# Altium footprint library CAMERON.PcbLib: 58 footprints (part 3 of 4)
Each footprint in its own frame and in the unit in brackets; x right, y up, seen from the top. Pads: shape width x height; smd on the part's side, far side on the other; paste and mask are expansions set on the pad; w line width, h text height; cw(c..) or ccw(c..) is an arc to the next point about the centre after c.
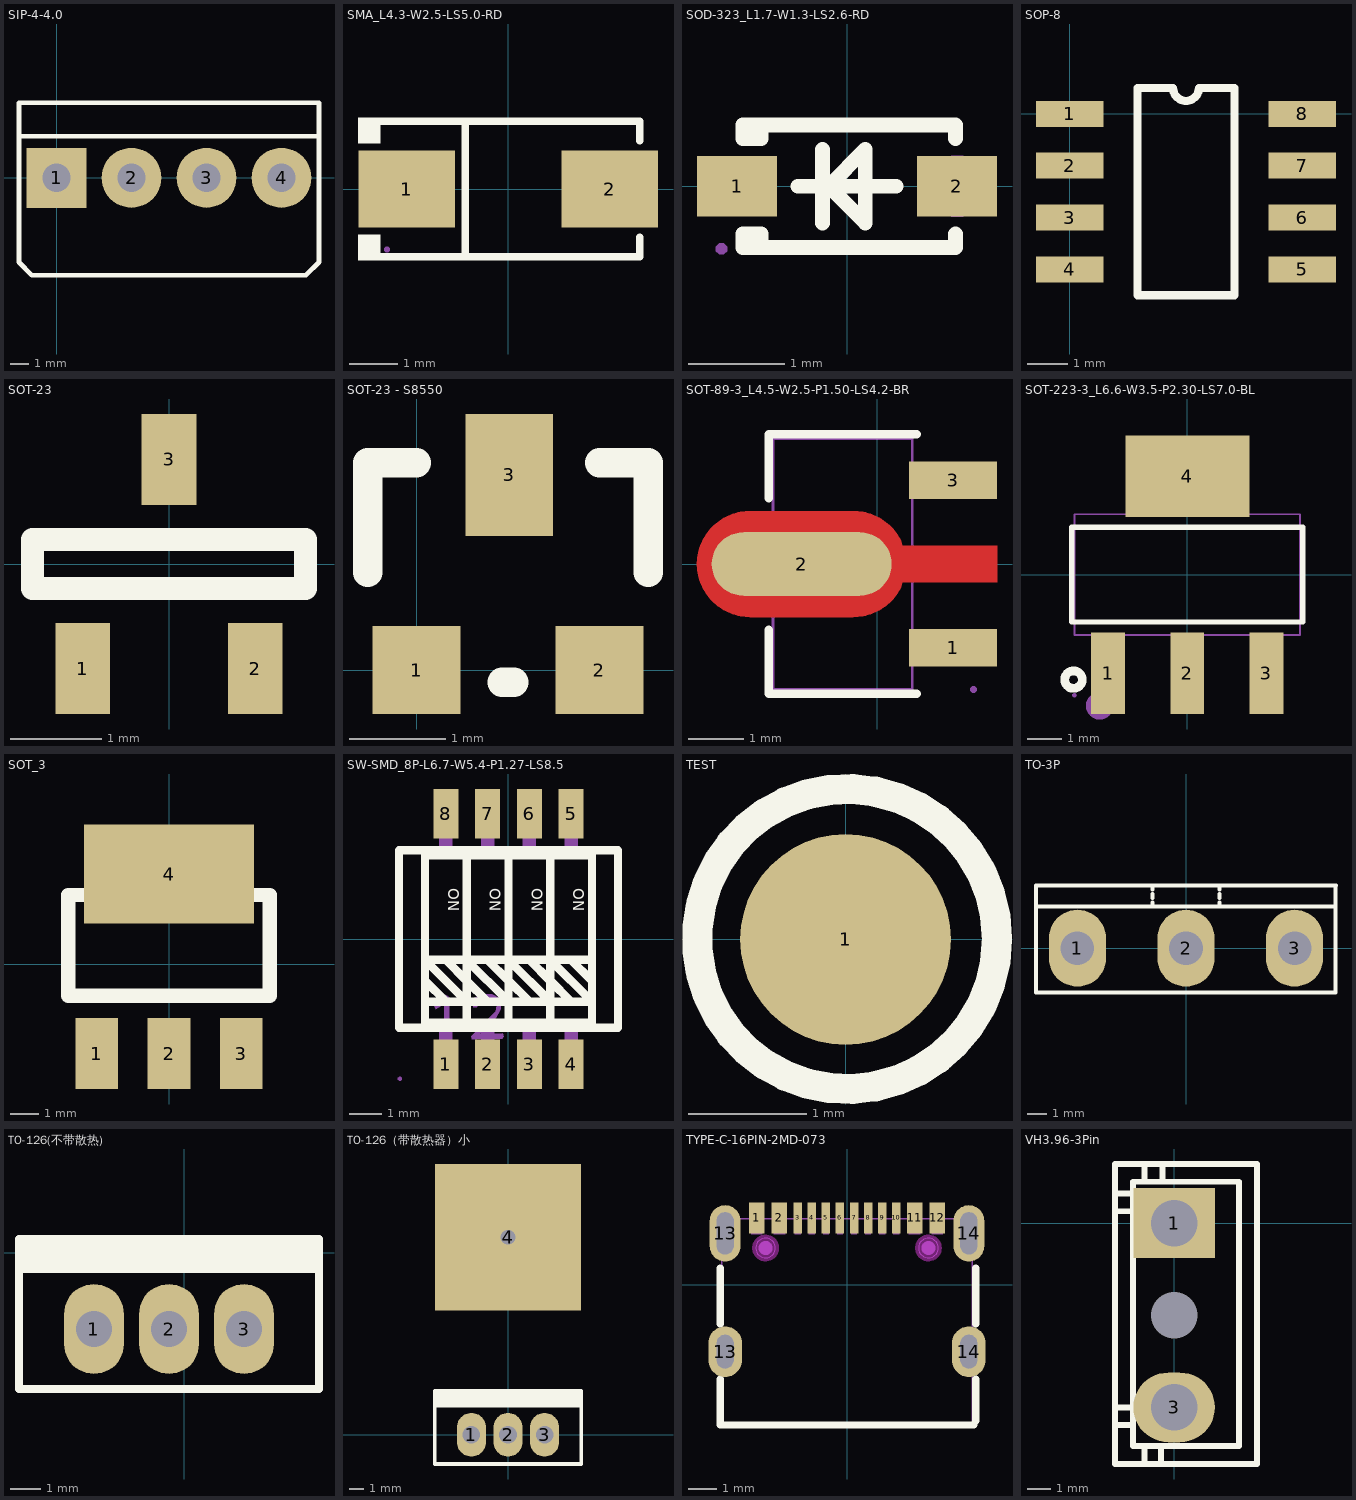
[diagram p2: the footprints below, top view; thin cyan lines are the x and y axes]

## SIP-4-4.0 [mm]
pads (4):
  rect 3.2x3.2 hole 1.5: 1(0,0)
  round 3.2 hole 1.5: 2(4,0) 3(8,0) 4(12,0)
Top Overlay:
  lines w0.254: -2,2.21 14,2.21 ; -1.31,-5.2 13.3,-5.2 14,-4.5 14,4 -2,4 -2,-4.51 -1.31,-5.2 ; -1.31,-5.2 -1.31,-5.2 ; -2,2.2 -2,2.2

## SMA_L4.3-W2.5-LS5.0-RD [mm]
pads (2):
  rect 2x1.593 smd: 1(-2.1,0) 2(2.1,0)
Top Overlay:
  region: -2.65,-1.477 -2.65,-0.949 -3.107,-0.949 -3.107,-1.477
  region: -2.65,1.477 -2.65,0.949 -3.107,0.949 -3.107,1.477
  lines w0.152: -2.726,-1.401 2.726,-1.401 2.726,-1 ; -2.726,1.401 2.726,1.401 2.726,1 ; -0.886,-1.401 -0.886,1.401
Mechanical 6:
  region: 2.153,-0.663 2.153,0.663 1.954,0.663 1.954,-0.663
  region: 2.451,-0.099 2.451,0.099 1.656,0.099 1.656,-0.099
  region: -2.451,-0.099 -2.451,0.099 -1.656,0.099 -1.656,-0.099
Mechanical 15:
  region: 1.307,-0.725 1.307,0.725 2.507,0.725 2.507,-0.725
  region: -1.307,0.725 -1.307,-0.725 -2.507,-0.725 -2.507,0.725
  region: -2.447,-1.25 -2.447,-1.225 -2.482,-1.19 -2.532,-1.19 -2.567,-1.225 -2.567,-1.25 -2.567,-1.275 -2.532,-1.31 -2.482,-1.31 -2.447,-1.275 -2.447,-1.25

## SOD-323_L1.7-W1.3-LS2.6-RD [mm]
pads (2):
  rect 0.83x0.63 smd paste+0 mask+0.05: 1(-1.14,0) 2(1.14,0)
Top Overlay:
  lines w0.152: -1.003,-0.635 -0.986,-0.635 -0.986,-0.495 ; -0.986,0.495 -0.986,0.635 ; -0.508,0 0.508,0 ; -0.254,-0.381 -0.254,0.381 ; 1.125,-0.495 1.125,-0.635 0.889,-0.635 -0.889,-0.635 ; 1.125,0.495 1.125,0.635 0.889,0.635 -0.889,0.635 ; -0.889,-0.635 -1.079,-0.635 -1.079,-0.495 -0.889,-0.495 ; -0.889,-0.635 -0.889,-0.595 -0.889,-0.495 ; -0.889,-0.495 -0.889,-0.495 ; -0.889,0.635 -1.08,0.635 -1.08,0.495 -0.889,0.495 -0.889,0.595 -0.889,0.635 ; -0.191,0 0.191,-0.381 0.191,0.381 -0.191,0
Mechanical 6:
  region: 0.826,0.064 0.826,-0.064 1.079,-0.064 1.079,-0.318 1.206,-0.318 1.206,-0.064 1.46,-0.064 1.46,0.064 1.206,0.064 1.206,0.318 1.079,0.318 1.079,0.064
  region: -1.46,0.064 -1.46,-0.064 -0.826,-0.064 -0.826,0.064
Mechanical 15:
  region: -1.24,-0.65 -1.241,-0.626 -1.276,-0.592 -1.324,-0.592 -1.359,-0.626 -1.36,-0.65 -1.359,-0.674 -1.324,-0.708 -1.276,-0.708 -1.241,-0.674
  region: -1.3,-0.175 -1.3,0.175 -0.8,0.175 -0.8,-0.175
  region: 0.8,-0.175 0.8,0.175 1.3,0.175 1.3,-0.175
  lines w0.051: -0.85,-0.65 0.85,-0.65 ; -0.85,0.65 0.85,0.65

## SOP-8 [mil]
pads (8):
  rect 65x25 smd: 1(0,0) 2(0,-50) 3(0,-100) 4(0,-150) 5(224.41,-150) 6(224.41,-100) 7(224.41,-50) 8(224.41,0)
Top Overlay:
  lines w7.87: 65.37,-175 65.37,25 99.7,25 ccw(c112.2,25) 124.7,25 159.04,25 159.04,-175 65.37,-175

## SOT-23 [mm]
height 1.1
pads (3):
  rect 0.6x1 smd: 1(-0.95,-1.15) 2(0.95,-1.15) 3(0,1.15)
Top Overlay:
  lines w0.254: -1.5,-0.27 1.5,-0.27 1.5,0.27 -1.5,0.27 -1.5,-0.27

## SOT-23 - S8550 [mil]
pads (3):
  rect 36x36 smd: 1(0,0) 2(75,0)
  rect 36x50 smd: 3(38,80)
Top Overlay:
  lines w12: -20,40 -20,85 0,85 ; 35,-5 40,-5 ; 75,85 95,85 95,40

## SOT-89-3_L4.5-W2.5-P1.50-LS4.2-BR [mm]
pads (3):
  rect 1.575x0.672 smd: 1(1.356,-1.5) 3(1.356,1.5)
  oval 3.226x1.14 smd: 2(-1.356,0)
Top Layer:
  region: -2.283,0.95 -0.429,0.95 -0.384,0.949 -0.34,0.946 -0.296,0.94 -0.252,0.933 -0.208,0.924 -0.165,0.912 -0.123,0.899 -0.081,0.884 -0.04,0.866 0,0.847 0.04,0.826 0.078,0.803 0.115,0.779 0.151,0.752 0.185,0.724 0.219,0.695 0.251,0.664 0.281,0.631 0.31,0.597 0.337,0.562 0.362,0.525 0.386,0.488 0.408,0.449 0.428,0.409 0.447,0.33 2.144,0.33 2.144,-0.33 0.447,-0.33 0.428,-0.409 0.408,-0.449 0.386,-0.488 0.362,-0.526 0.337,-0.562 0.31,-0.597 0.281,-0.631 0.251,-0.664 0.219,-0.695 0.185,-0.725 0.151,-0.753 0.115,-0.779 0.078,-0.804 0.04,-0.827 0,-0.848 -0.04,-0.867 -0.081,-0.884 -0.123,-0.899 -0.165,-0.913 -0.208,-0.924 -0.252,-0.934 -0.296,-0.941 -0.34,-0.946 -0.384,-0.949 -0.429,-0.95 -2.283,-0.95 -2.328,-0.949 -2.372,-0.946 -2.416,-0.941 -2.46,-0.934 -2.504,-0.924 -2.547,-0.913 -2.589,-0.899 -2.631,-0.884 -2.672,-0.867 -2.713,-0.848 -2.752,-0.827 -2.79,-0.804 -2.827,-0.779 -2.863,-0.753 -2.898,-0.725 -2.931,-0.695 -2.963,-0.664 -2.993,-0.631 -3.022,-0.597 -3.049,-0.562 -3.075,-0.526 -3.098,-0.488 -3.12,-0.449 -3.141,-0.409 -3.159,-0.369 -3.175,-0.327 -3.189,-0.285 -3.202,-0.242 -3.212,-0.199 -3.22,-0.155 -3.227,-0.111 -3.231,-0.067 -3.233,-0.022 -3.233,0.022 -3.231,0.067 -3.227,0.111 -3.22,0.155 -3.212,0.199 -3.202,0.242 -3.189,0.285 -3.175,0.327 -3.159,0.369 -3.141,0.409 -3.12,0.449 -3.098,0.488 -3.075,0.525 -3.049,0.562 -3.022,0.597 -2.993,0.631 -2.963,0.664 -2.931,0.695 -2.898,0.724 -2.863,0.752 -2.827,0.779 -2.79,0.803 -2.752,0.826 -2.713,0.847 -2.672,0.866 -2.631,0.884 -2.589,0.899 -2.547,0.912 -2.504,0.924 -2.46,0.933 -2.416,0.94 -2.372,0.946 -2.328,0.949
Top Overlay:
  lines w0.152: -1.95,-1.177 -1.95,-2.326 0.702,-2.326 ; -1.95,1.177 -1.95,2.326 0.702,2.326
Mechanical 6:
  circle w0.3: c1.715,-1.5 r0.15
Mechanical 15:
  region: 0.624,1.75 1.724,1.75 1.724,1.25 0.624,1.25
  region: 0.624,-1.25 1.724,-1.25 1.724,-1.75 0.624,-1.75
  region: 0.439,-0.26 1.724,-0.26 1.724,0.26 0.439,0.26 -0.136,0.863 -2,0.863 -2.471,0.288 -2.471,-0.287 -2,-0.862 -0.136,-0.862
  region: 1.784,-2.25 1.784,-2.225 1.749,-2.19 1.699,-2.19 1.664,-2.225 1.664,-2.25 1.664,-2.275 1.699,-2.31 1.749,-2.31 1.784,-2.275
  lines w0.051: -1.874,-2.25 0.626,-2.25 0.626,2.25 -1.874,2.25 -1.874,-2.25

## SOT-223-3_L6.6-W3.5-P2.30-LS7.0-BL [mm]
pads (4):
  rect 0.98x2.366 smd: 1(-2.3,-2.863) 2(0,-2.863) 3(2.3,-2.863)
  rect 3.6x2.366 smd: 4(0,2.863)
Top Overlay:
  circle w0.254: c-3.302,-3.048 r0.254
  lines w0.152: -3.351,-1.375 3.351,-1.375 3.351,1.375 -3.351,1.375 -3.351,-1.375
Mechanical 6:
  circle w0.4: c-2.54,-3.81 r0.2
Mechanical 15:
  region: 1.5,2.6 1.5,1.74 -1.5,1.74 -1.5,2.6
  region: 1.5,3.5 1.5,2.59 -1.5,2.59 -1.5,3.5
  region: 2.65,-2.6 2.65,-1.74 1.95,-1.74 1.95,-2.6
  region: 2.65,-3.5 2.65,-2.59 1.95,-2.59 1.95,-3.5
  region: 0.35,-2.6 0.35,-1.74 -0.35,-1.74 -0.35,-2.6
  region: 0.35,-3.5 0.35,-2.59 -0.35,-2.59 -0.35,-3.5
  region: -1.95,-2.6 -1.95,-1.74 -2.65,-1.74 -2.65,-2.6
  region: -1.95,-3.5 -1.95,-2.59 -2.65,-2.59 -2.65,-3.5
  region: -3.215,-3.5 -3.216,-3.476 -3.251,-3.441 -3.3,-3.441 -3.335,-3.476 -3.335,-3.5 -3.334,-3.525 -3.299,-3.559 -3.251,-3.559 -3.216,-3.525
  lines w0.051: -3.275,-1.75 3.275,-1.75 3.275,1.75 -3.275,1.75 -3.275,-1.75

## SOT_3 [mm]
pads (4):
  rect 1.5x2.5 smd: 1(-2.54,-3.151) 2(0,-3.151) 3(2.54,-3.151)
  rect 6x3.5 smd: 4(0,3.175)
Top Overlay:
  lines w0.508: -3.556,-1.119 3.556,-1.119 3.556,2.437 -3.556,2.437 -3.556,-1.119
Top Solder:
  rectangle: -3.048,1.397 3.048,4.989

## SW-SMD_8P-L6.7-W5.4-P1.27-LS8.5 [mm]
pads (8):
  rect 0.762x1.5 smd: 1(-1.905,-3.81) 2(-0.635,-3.81) 3(0.635,-3.81) 4(1.905,-3.81) 5(1.905,3.81) 6(0.635,3.81) 7(-0.635,3.81) 8(-1.905,3.81)
Top Overlay:
  lines w0.254: -2.54,-1.905 -1.27,-1.905 ; -2.54,-1.27 -1.905,-1.905 ; -1.905,-0.635 -1.27,-1.27 -0.635,-1.905 ; -0.635,-0.635 0,-1.27 0.635,-1.905 ; 0.635,-0.635 1.27,-1.27 1.905,-1.905 ; 1.905,-0.635 2.54,-1.27 ; 2.54,-0.635 1.27,-0.635 ; -1.27,-2.54 0,-2.54 ; -1.27,-2.54 -2.54,-2.54 -2.54,2.54 -1.27,2.54 ; -1.27,-2.54 -1.27,2.54 ; -1.27,-2.54 -1.27,2.54 ; -1.27,-2.54 -1.27,2.54 ; -1.27,-2.54 -1.27,2.54 ; -1.27,-1.905 0,-1.905 ; -1.27,-1.905 -2.54,-0.635 -1.27,-0.635 ; -1.27,-0.635 0,-0.635 ; -1.27,-0.635 0,-1.905 ; -1.27,2.54 0,2.54 ; 0,-2.54 0,2.54 ; 0,-2.54 0,2.54 ; 0,-2.54 0,2.54 ; 0,-2.54 1.27,-2.54 ; 0,-1.905 1.27,-1.905 ; 0,-0.635 1.27,-1.905 ; 0,-0.635 1.27,-0.635 ; 0,2.54 1.27,2.54 ; 1.27,-2.54 1.27,2.54 ; 1.27,-2.54 2.54,-2.54 2.54,2.54 1.27,2.54 ; 1.27,-2.54 1.27,2.54 ; 1.27,-1.905 2.54,-1.905 1.27,-0.635 ; -3.33,-2.7 -3.33,2.7 3.33,2.7 3.33,-2.7 -3.33,-2.7
  text "ON" at -0.564,1.538 h0.33
  text "ON" at 0.706,1.538 h0.33
  text "ON" at 1.976,1.538 h0.33
  text "ON" at -1.834,1.538 h0.33
Mechanical 6:
  region: -0.97,-2.08 -0.87,-1.94 -0.75,-1.85 -0.55,-1.84 -0.39,-1.92 -0.36,-2.03 -0.39,-2.19 -1.13,-2.95 -1.11,-3.05 -0.96,-3.05 -0.19,-3.03 -0.14,-2.97 -0.17,-2.87 -0.87,-2.89 -0.39,-2.41 -0.24,-2.14 -0.22,-1.93 -0.3,-1.78 -0.49,-1.68 -0.77,-1.68 -1.01,-1.77 -1.11,-1.96 -1.05,-2.09
  region: -2.25,-2.05 -2.21,-2.13 -1.96,-1.99 -1.97,-3.07 -1.8,-3.08 -1.8,-1.77 -1.91,-1.7 -2.27,-1.98
Mechanical 15:
  region: -2.105,-4.25 -2.105,-3.42 -1.705,-3.42 -1.705,-4.25
  region: -2.105,-3.43 -2.105,-2.69 -1.705,-2.69 -1.705,-3.43
  region: -2.105,3.42 -2.105,4.25 -1.705,4.25 -1.705,3.42
  region: -2.105,2.69 -2.105,3.43 -1.705,3.43 -1.705,2.69
  region: 1.705,3.42 1.705,4.25 2.105,4.25 2.105,3.42
  region: 1.705,2.69 1.705,3.43 2.105,3.43 2.105,2.69
  region: 1.705,-4.25 1.705,-3.42 2.105,-3.42 2.105,-4.25
  region: 1.705,-3.43 1.705,-2.69 2.105,-2.69 2.105,-3.43
  region: 0.435,-4.25 0.435,-3.42 0.835,-3.42 0.835,-4.25
  region: 0.435,-3.43 0.435,-2.69 0.835,-2.69 0.835,-3.43
  region: 0.435,3.42 0.435,4.25 0.835,4.25 0.835,3.42
  region: 0.435,2.69 0.435,3.43 0.835,3.43 0.835,2.69
  region: -0.835,3.42 -0.835,4.25 -0.435,4.25 -0.435,3.42
  region: -0.835,2.69 -0.835,3.43 -0.435,3.43 -0.435,2.69
  region: -0.835,-4.25 -0.835,-3.42 -0.435,-3.42 -0.435,-4.25
  region: -0.835,-3.43 -0.835,-2.69 -0.435,-2.69 -0.435,-3.43
  region: -3.24,-4.25 -3.24,-4.225 -3.275,-4.19 -3.325,-4.19 -3.36,-4.225 -3.36,-4.25 -3.36,-4.275 -3.325,-4.31 -3.275,-4.31 -3.24,-4.275 -3.24,-4.25
  lines w0.051: -3.3,-2.7 3.3,-2.7 3.3,2.7 -3.3,2.7 -3.3,-2.7

## TEST [mil]
pads (1):
  round 70 smd: 1(0,0)
Top Overlay:
  circle w10: c0.46,0.16 r49.82

## TO-3P [mm]
pads (3):
  oval 2.9x3.9 hole 1.7: 1(-5.5,0) 2(0,0) 3(5.5,0)
Top Overlay:
  lines w0.2: -7.602,3.165 -7.602,2.107 -7.602,-2.24 7.582,-2.24 7.582,2.117 7.582,3.175 ; -7.6,3.175 7.6,3.175 ; -7.53,2.117 7.55,2.117 ; -1.693,2.117 -1.693,2.328 ; -1.693,2.54 -1.693,2.752 ; -1.693,2.963 -1.693,3.175 ; 1.693,2.117 1.693,2.328 ; 1.693,2.54 1.693,2.752 ; 1.693,2.963 1.693,3.175

## TO-126(不带散热) [mm]
pads (3):
  oval 2x3 hole 1.2: 1(-3.008,-2.54) 2(-0.508,-2.54) 3(1.992,-2.54)
Top Overlay:
  lines w0.254: -5.508,-0.54 4.492,-0.54 ; -5.508,-0.381 4.492,-0.381 ; -5.508,-0.254 4.492,-0.254 ; -5.508,0.02 4.492,0.02 ; -5.508,0.254 4.492,0.254 ; -5.381,-0.127 4.492,-0.127 ; -5.508,-4.54 -5.508,0.46 4.492,0.46 4.492,-4.54 -5.508,-4.54

## TO-126（带散热器）小 [mm]
pads (4):
  oval 2x3 hole 1.2: 1(-2.5,0) 2(0,0) 3(2.5,0)
  rect 10x10 hole 1: 4(0,13.513)
Top Overlay:
  lines w0.254: -5,2 5,2 ; -5,2.159 5,2.159 ; -5,2.286 5,2.286 ; -5,2.56 5,2.56 ; -5,2.794 5,2.794 ; -4.873,2.413 5,2.413 ; -5,-2 5,-2 5,3 -5,3 -5,-2

## TYPE-C-16PIN-2MD-073 [mm]
pads (16):
  rect 0.55x1.1 smd paste-100 mask+0.05: 1(-3.2,2.375) 2(-2.4,2.375) 11(2.4,2.375) 12(3.2,2.375)
  rect 0.3x1.1 smd paste-100 mask+0.05: 3(-1.75,2.375) 4(-1.25,2.375) 5(-0.75,2.375) 6(-0.25,2.375) 7(0.25,2.375) 8(0.75,2.375) 9(1.25,2.375) 10(1.75,2.375)
  oval 1.1x2 hole 0.6 slot 1.5 at 90 deg paste+0 mask+0.05: 13(-4.325,1.825) 14(4.325,1.825)
  oval 1.2x1.8 hole 0.6 slot 1.2 at 90 deg paste+0 mask+0.05: 13(-4.325,-2.375) 14(4.325,-2.375)
Top Overlay:
  lines w0.254: -4.5,-3.356 -4.5,-4.975 4.5,-4.975 ; -4.5,-1.394 -4.5,0.594 ; 4.572,-4.826 4.572,-3.353 ; 4.572,-1.397 4.572,0.597
Top Paste:
  drawing of 16 lines, arcs and shapes, not listed
Keep-Out Layer:
  board cut-out: -2.54,1.305 -2.541,1.374 -2.595,1.5 -2.694,1.597 -2.821,1.649 -2.959,1.649 -3.086,1.597 -3.184,1.5 -3.239,1.374 -3.24,1.305 -3.239,1.236 -3.184,1.11 -3.086,1.013 -2.959,0.961 -2.821,0.961 -2.694,1.013 -2.595,1.11 -2.541,1.236
  board cut-out: 3.24,1.305 3.239,1.374 3.185,1.5 3.086,1.597 2.959,1.649 2.821,1.649 2.694,1.597 2.596,1.5 2.541,1.374 2.54,1.305 2.541,1.236 2.596,1.11 2.694,1.013 2.821,0.961 2.959,0.961 3.086,1.013 3.185,1.11 3.239,1.236
Mechanical 1:
  circle w0.025: c-2.89,1.305 r0.35
  circle w0.025: c2.89,1.305 r0.35
Mechanical 6:
  circle w0.25: c-2.89,1.305 r0.125
  circle w0.25: c2.89,1.305 r0.125
Mechanical 15:
  region: -4.39,2.649 -4.39,2.674 -4.425,2.709 -4.475,2.709 -4.51,2.674 -4.51,2.649 -4.51,2.624 -4.475,2.589 -4.425,2.589 -4.39,2.624
  region: -1.85,2.649 -1.65,2.649 -1.65,1.799 -1.85,1.799
  region: -0.85,2.649 -0.65,2.649 -0.65,1.799 -0.85,1.799
  region: -1.35,2.649 -1.15,2.649 -1.15,1.799 -1.35,1.799
  region: -0.35,2.649 -0.15,2.649 -0.15,1.799 -0.35,1.799
  region: 0.15,2.649 0.35,2.649 0.35,1.799 0.15,1.799
  region: 0.65,2.649 0.85,2.649 0.85,1.799 0.65,1.799
  region: 1.15,2.649 1.35,2.649 1.35,1.799 1.15,1.799
  region: 1.65,2.649 1.85,2.649 1.85,1.799 1.65,1.799
  region: -3.4,2.649 -3,2.649 -3,1.799 -3.4,1.799
  region: -2.6,2.649 -2.2,2.649 -2.2,1.799 -2.6,1.799
  region: 2.2,2.649 2.6,2.649 2.6,1.799 2.2,1.799
  region: 3,2.649 3.4,2.649 3.4,1.799 3,1.799
  region: -4.45,2.349 -4.2,2.349 -4.2,1.249 -4.45,1.249
  region: 4.2,2.349 4.45,2.349 4.45,1.249 4.2,1.249
  region: -4.45,-2.025 -4.2,-2.025 -4.2,-2.725 -4.45,-2.725
  region: 4.2,-2.025 4.45,-2.025 4.45,-2.725 4.2,-2.725
  lines w0.051: -4.45,-5.001 -4.45,2.349 4.45,2.349 4.45,-5.001 -4.45,-5.001
Multi-Layer keep-out:
  circle w0.254: c-2.89,1.305 r0.35
  circle w0.254: c2.89,1.305 r0.35

## VH3.96-3Pin [mm]
pads (3):
  rect 3.5x3 hole 2: 1(0,0)
  round 0 hole 2: 2(0,-3.96)
  oval 3.5x3 hole 2: 3(0,-7.92)
Top Overlay:
  lines w0.254: -2.54,-7.928 -1.778,-7.928 ; -2.54,0.508 -1.778,0.508 ; -2.54,1.27 -1.778,1.27 ; -2.53,-8.68 -1.768,-8.68 ; -1.275,-10.337 -1.275,-9.575 ; -1.27,1.778 -1.27,2.54 ; -0.575,-10.337 -0.575,-9.575 ; -0.508,1.778 -0.508,2.54 ; -2.54,-10.35 3.556,-10.35 3.556,2.54 0,2.54 -2.54,2.54 -2.54,-10.35 ; -1.778,-9.575 2.794,-9.575 2.794,1.778 -1.778,1.778 -1.778,-9.575